# EAGLE library part FUSEBLOCK-6 (library igvc)
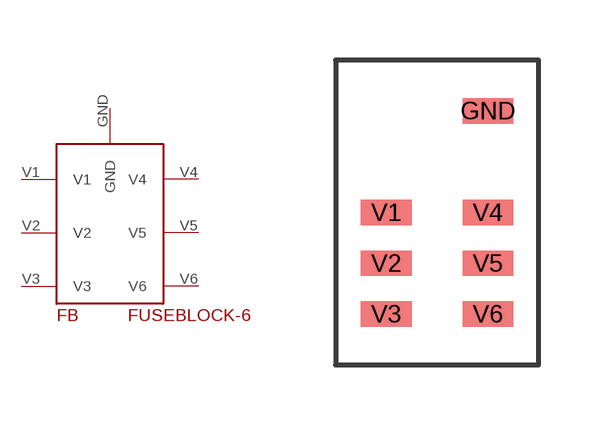
[diagram p1: symbol with the pads of FUSEBLOCK-6PT; footprint FUSEBLOCK-6PT]

Designator prefix FB

## FUSEBLOCK-6  [FUSEBLOCK-6PT]
GND  GND  pwr
V1  V1  pwr
V2  V2  pwr
V3  V3  pwr
V4  V4  pwr
V5  V5  pwr
V6  V6  pwr

## Footprint FUSEBLOCK-6PT (pad centres in mm)
smd 1.27 x 0.635: GND 1.27,2.54; V1 -1.27,0; V2 -1.27,-1.27; V3 -1.27,-2.54; V4 1.27,0; V5 1.27,-1.27; V6 1.27,-2.54